# EAGLE library part TPS564255DRLR (library TPS564255DRLR)
3-V to 17-V input voltage, 4-A OOA mode, synchronous buck converter with PG Source: Datasheet <https://www.ti.com/lit/ds/symlink/tps564257.pdf?HQS=dis-mous-null-mousermode-dsf-pf-null-wwe&ts=1695645096067&ref_url=https%3A%2F%2Fwww.mouser.com%2F>
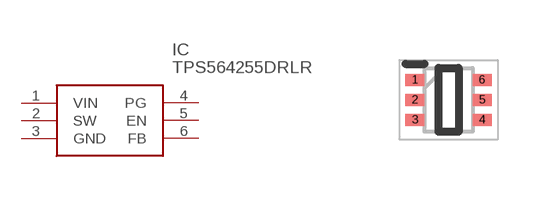
[diagram p0: symbol with the pads of SOTFL50P160X60-6N; footprint SOTFL50P160X60-6N]

Designator prefix IC

## TPS564255DRLR (Description: 3-V to 17-V input voltage, 4-A OOA mode, synchronous buck converter with PG; Height: 0.6mm; Manufacturer_Name: Texas Instruments; Manufacturer_Part_Number: TPS564255DRLR; Mouser_Part_Number: 595-TPS564255DRLR; Mouser_Price-Stock: https://www.mouser.co.uk/ProductDetail/Texas-Instruments/TPS564255DRLR?qs=ulEaXIWI0c8mPomYtvsyTw%3D%3D)  [SOTFL50P160X60-6N]
1  VIN
2  SW
3  GND
4  PG
5  EN
6  FB

## Footprint SOTFL50P160X60-6N (pad centres in mm)
DRL0006A
smd 0.475 x 0.3: 1 -0.838,0.5; 2 -0.838,0; 3 -0.838,-0.5; 4 0.838,-0.5; 5 0.838,0; 6 0.838,0.5